# Altium schematic symbol library Mi Libreria.SchLib: 154 symbols
Pins are listed as number, name and electrical type; pins without a type are passive.

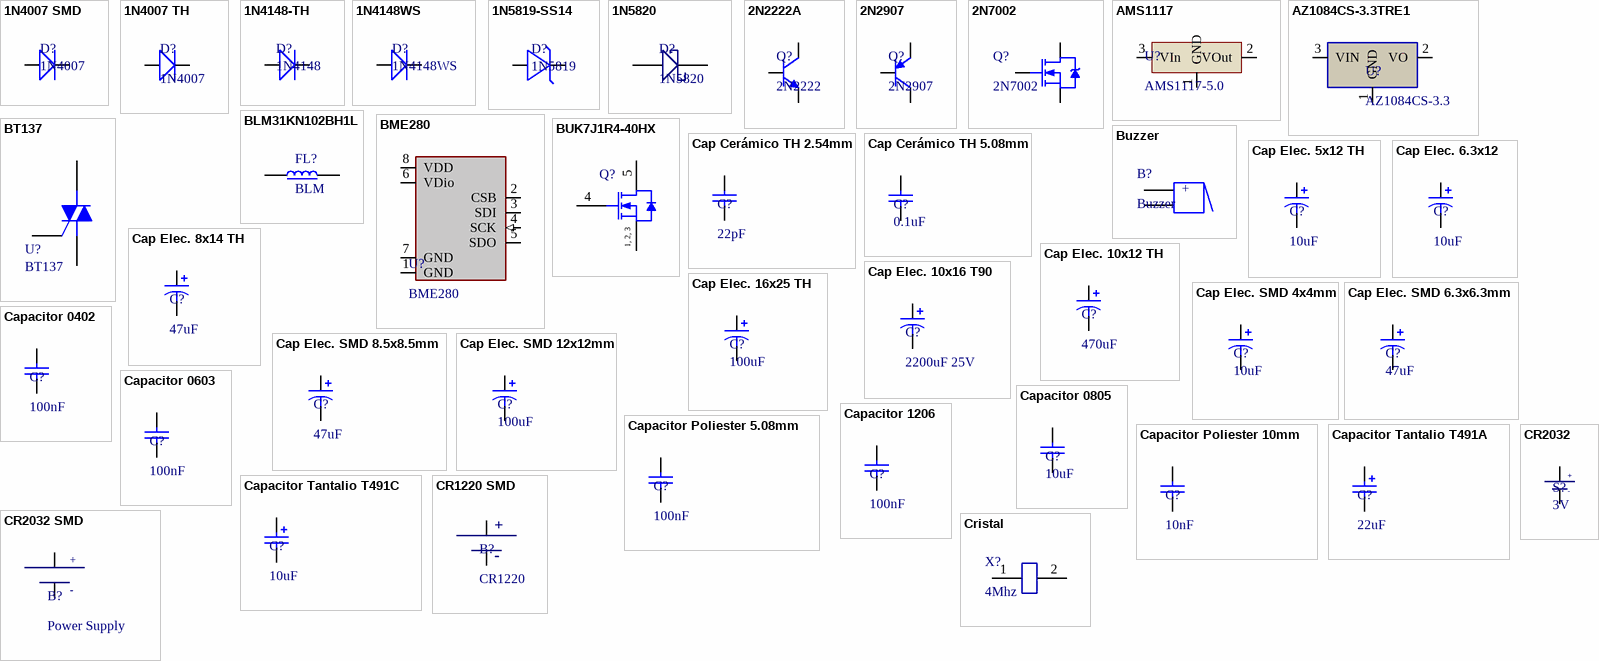
[diagram p0: symbols 1N4007 SMD to Cristal]

## 1N4007 SMD
designator D?, comment 1N4007
Diodo Rectificador
footprint DO214AC SMA (Diodo Proposito General)
pins: 1 A, 2 C

## 1N4007 TH
designator D?, comment 1N4007
Diodo Rectificador
footprint 1N4007 (Diode Rectifier TH)
pins: 1 A, 2 C

## 1N4148-TH
designator D?, comment 1N4148
Diodo Rectificador Recuperacion Rapida TH
footprint Diodo DO-35 (Diodo Rectificador,Zener cristal DO-35)
pins: 1 A, 2 C

## 1N4148WS
designator D?
Diodo Rectificador Recuperacion Rapida
footprint SOD-323 (SO3-323 SMD)
pins: 1 A, 2 C

## 1N5819-SS14
designator D?, comment 1N5819
Diodo Shotkky 2A
footprint 1N5819 (DO-214)
pins: 1 A, 2 C

## 1N5820
designator D?
Diodo Shotkky 5A
footprint 1N5820 (Diodo Shottky 3A Trough Hole)
pins: 1 A, 2 C

## 2N2222A
designator Q?, comment 2N2222
Transistor BJT NPN
footprint TO-92 Pi (Transistor To-92)
pins: 1 E, 2 B, 3 C

## 2N2907
designator Q?
Transistor BJT PNP
footprint TO-92 Pi (Transistor To-92)
pins: 1 E, 2 B, 3 C

## 2N7002
designator Q?
Mosfet N SOT23
footprint SOT23127P600-8N
pins: 1 G, 2 S, 3 D

## AMS1117
designator U?, comment AMS1117-5.0
Regulador Lineal de Voltaje
footprint SOT 223 (SOT223, 4-Leads, Body 6.50x7.10mm (avg), Pitch 2.30mm, IPC Medium Density)
pins: 1 GND, 2 VOut, 3 VIn

## AZ1084CS-3.3TRE1
designator U?, comment AZ1084CS-3.3
Reguladores de tensión LDO 5A LDO Reg 1.5V 5A 3.3V Lead Free
footprint TO-263-3 (DPAK POWER TO 263)
pins: 1 GND, 2 VO, 3 VIN

## BLM31KN102BH1L
designator FL?, comment BLM
1 Power Line Ferrite Bead 1206 (3216 Metric) 1.4A 75mOhm; MP: BLM31KN102BH1L; MF: Murata; Arrow_Electronics-Purchase-URL: https://snapeda.com/shop?store=Arrow+Electronics&id=4301733; Price: None; Package: 3216 Murata; Value: *; DigiKey-Purchase-URL: https://snapeda.com/shop?store=DigiKey&id=4301733; Availability: Good; Mouser-Purchase-URL: https://snapeda.com/shop?store=Mouser&id=4301733; SnapEDA_Link: https://www.snapeda.com/parts/BLM31KN102BH1L/Murata/view-part/4301733/?ref=snap
footprint BEADC3216X180N
pins: 1, 2

## BME280
designator U?
SENSOR PRESSURE HUMIDITY TEMP
footprint PSON65P250X250X100-8N
pins: 1 GND, 2 CSB, 3 SDI, 4 SCK (in), 5 SDO, 6 VDio (power), 7 GND, 8 VDD (power)

## BT137
designator U?
Triac
footprint TO-220AB (TO-220 AB MODELO PARA TRANSITORES)
pins: 1 M1, 2 M2, 3 G

## BUK7J1R4-40HX
designator Q?
N-Channel Standard Level MOSFET, 40 V, 120 A, 5-Pin SOT669, Tape and Reel; Manufacturer: NXP Semiconductors; PartNumber: BUK7Y3R5-40E,115; Automotive Qualified: Y; Channel Type: N; ID [max] (A): 100; IDM [max] (A): 622; Packing: Tape & Reel; Qr [typ] (nC): 25.4; VDS [max] (V): 40; VGSth [typ] (V): 3; PackageVersion: 13-02-27, 02/2013; PackageReference: SOT669; PackageDescription: 4-Pin Plastic Single-ended Surface Mounted Package, Body 4.9 x 3.95 mm, Pitch 1.27 mm; Supplier 1: Digi-Key; Supplier Part Number 1: 568-11418-2-ND; Supplier 2: Digi-Key; Supplier Part Number 2: 568-11418-1-ND; Supplier 3: Digi-Key; Supplier Part Number 3: 568-11418-6-ND; Supplier 4: Newark; Supplier Part Number 4: 45W7223; Supplier 5: Mouser; Supplier Part Number 5: 771-BUK7Y3R5-40E115; Mounting Technology: Surface Mount; Code_JEDEC: MO-235; ComponentLink1Description: Manufacturer URL; ComponentLink1URL: http://www.nxp.com/; ComponentLink2Description: Datasheet; ComponentLink2URL: http://www.nxp.com/documents/data_sheet/BUK7Y3R5-40E.pdf; ComponentLink3Description: Package Specification; ComponentLink3URL: http://www.nxp.com/documents/outline_drawing/sot669_po.pdf
footprint LFPAK56E (NXP LFPAK56E Plastic single-ended surface-mounted package)
pins: 1 S "source", 2 S "source", 3 S "source", 4 G "gate", 5 D "mounting base; connected to drain"
text: 1, 2, 3

## Buzzer
designator B?
Active Sound
footprint Buzzer (Buzzer 5V)
pins: 1, 2
text: +

## Cap Cerámico TH 2.54mm
designator C?, comment 22pF
Ceramic Capacitor 2.54mm
footprint Capacitor Ceramico 2.54mm (Capacitor Cerámico 4mm Trough Hole)
pins: 1, 2

## Cap Cerámico TH 5.08mm
designator C?, comment 0.1uF
Capacitor Ceramico TH 0.3
footprint Capacitor Ceramico 5.08,mm (Capacitor Cerámico TH 5.08mm)
pins: 1, 2

## Cap Elec. 5x12 TH
designator C?, comment 10uF
Capacitor Electrolítico 5x12mm
footprint Electrolitico 5x12 (Capacitor Electrolitico 5x12mm)
pins: 1, 2

## Cap Elec. 6.3x12
designator C?, comment 10uF
Capacitor Electrolítico 6.3x12mm
footprint Electrolitico 6.3x12 (Capacitor Electrolitico 6.3x12mm)
pins: 1, 2

## Cap Elec. 8x14 TH
designator C?, comment 47uF
Capacitor Electrolítico 8x14mm
footprint Electrolitico 8x14 (Capacitor Electrolitico 8x14)
pins: 1, 2

## Cap Elec. 10x12 TH
designator C?, comment 470uF
Capacitor Electrolitico TH 10x12mm
footprint Electrolitico 10x12 (Capacitor Electrolitico 10x12mm)
pins: 1, 2

## Cap Elec. 10x16 T90
designator C?, comment 2200uF 25V
Capacitor Electrolitico TH 10x16mm en ángulo
footprint Electrolitico 10x16 Angulo (Capacitor Electrolitico 10x16mm en 90 grados)
pins: 1, 2

## Cap Elec. 16x25 TH
designator C?, comment 100uF
Capacitor Electrolítico TH 15x25mm
footprint Capacitor Electrolitico (Capacitor Electrolitico 16x25)
pins: 1, 2

## Cap Elec. SMD 4x4mm
designator C?, comment 10uF
4X4 Electrolitico Capacitor SMD
footprint Cap Electrolitico SMD 4x4 (SMD Capacitor 4x4mm)
pins: 1, 2

## Cap Elec. SMD 6.3x6.3mm
designator C?, comment 47uF
6.6X6.6 Electrolitico Capacitor SMD
footprint Cap Electrolitico SMD 6.6X6.6MM (SMD Capacitor 6.6X6.6mm)
pins: 1, 2

## Cap Elec. SMD 8.5x8.5mm
designator C?, comment 47uF
Capacitor Electrolitico SMD 5x5
footprint Capacitor SMD 8.5x8.5 (Capacitor Electrolitico SMD 8.5x8.5mm)
pins: 1, 2

## Cap Elec. SMD 12x12mm
designator C?, comment 100uF
12X12 Electrolitico Capacitor SMD
footprint CAPACITOR SMD (ELECTROLITICO)
pins: 1, 2

## Capacitor 0402
designator C?, comment 100nF
Capacitor Ceramico SMD 0402
footprint Capacitor 0402
pins: 1, 2

## Capacitor 0603
designator C?, comment 100nF
Capacitor Ceramico SMD 0603
footprint Capacitor 0603 (Chip Capacitor 0603 SMD)
pins: 1, 2

## Capacitor 0805
designator C?, comment 10uF
Capacitor Cerámico SMD 0805
footprint CAPACITOR 0805 (SMD CAPACITOR)
pins: 1, 2

## Capacitor 1206
designator C?, comment 100nF
Capacitor cerámico 1206 SMD
footprint Capacitor 1206 (Capacitor Ceramico 1206)
pins: 1, 2

## Capacitor Poliester 5.08mm
designator C?, comment 100nF
Capacitor Polyester 5mm Pitch; B32529C3103K000: 10nF 250VCA
footprint Capacitor Poliester (Capacitor Poliester 5.08mm Pitch)
pins: 1, 2

## Capacitor Poliester 10mm
designator C?, comment 10nF
Capacitor Poliester 600VAC
footprint Polyester Cap 600 (Cpacitor Poliester 600VAC)
pins: 1, 2

## Capacitor Tantalio T491A
designator C?, comment 22uF
Capacitor Tantalio SMD T491A
footprint Tantalio T494A (Capacitor SMD)
pins: 1, 2

## Capacitor Tantalio T491C
designator C?, comment 10uF
Capacitor Tantalio SMD C
footprint Tantalio T494C
pins: 1, 2

## CR1220 SMD
designator B?, comment CR1220
3V Battery
footprint CR1220 (Battery Holder SMT)
pins: 1 (power), 2 (power)
text: +; -

## CR2032
designator S?, comment 3V
Bateria 3V CR2032
footprint CR2032 (Battery Holder TH)
pins: 1 (power), 2
text: +; -

## CR2032 SMD
designator B?, comment Power Supply
Battery Power
footprint CR2032 - SMD (Holder CR2032 SMD)
pins: 1 (power), 2 (power)
text: +; -

## Cristal
designator X?, comment 4Mhz
HC-49S
footprint CRISTAL (CRISTAL TH)
pins: 1, 2

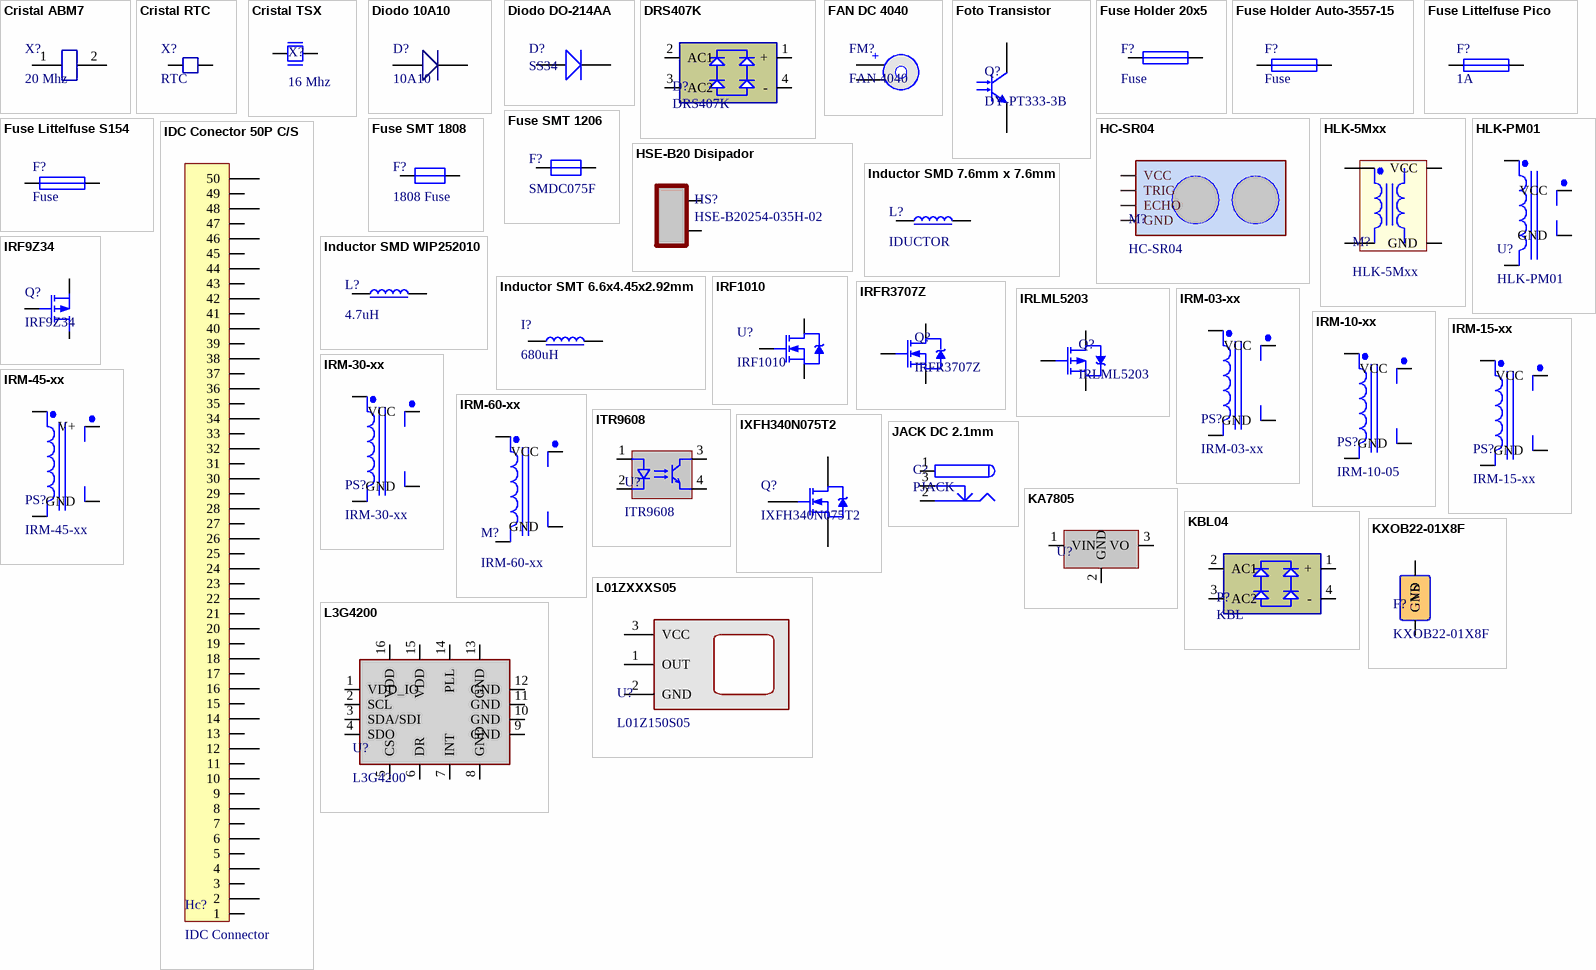
[diagram p1: symbols Cristal ABM7 to L3G4200]

## Cristal ABM7
designator X?, comment 20 Mhz
Cristal SMD ABM 7 6.2x3.5mm
footprint ABM7 Cristal
pins: 1, 2

## Cristal RTC
designator X?, comment RTC
Cristal 32.768
footprint Cristal RTC (32.768 Khz Th)
pins: 1, 2

## Cristal TSX
designator X?, comment 16 Mhz
Cristal SMD 3.2 x 2.5mm
footprint Cristal SMD TSX (TSX3225)
pins: 1, 3

## Diodo 10A10
designator D?, comment 10A10
Diodo Rectificador 10A
footprint 10A10 (DIODE)
pins: 1 A, 2 C

## Diodo DO-214AA
designator D?, comment SS34
Diodo SMD 3A DO-214AA SMB
footprint DO214AA SMB (Diodo Proposito General SMD 3A)
pins: 1 A, 2 C

## DRS407K
designator D?
Bridge Rectifier DRS407K  4A
footprint Rctificador DRS407K (DRS407K  Bridge Rectifier 4A)
pins: 1 +, 2 AC1, 3 AC2, 4 -

## FAN DC 4040
designator FM?, comment FAN 4040  (mechanical)
Active Move
footprint FAN DC 4040 (DC Fan 404010)
pins: 1, 2
text: +

## Foto Transistor
designator Q?, comment DY-PT333-3B
Foto Transistor TH 5mm
footprint Photo Transistor (5mm TH)
pins: 1 C, 2 E

## Fuse Holder 20x5
designator F?, comment Fuse
Fuse Holder 20x5
footprint Fuse Holder (Holder 20x5)
pins: 1, 2

## Fuse Holder Auto-3557-15
designator F?, comment Fuse
Fuse Holder Automotive
footprint Fuse Holder Auto mini (0891020.NXS Compa)
pins: 1, 2

## Fuse Littelfuse Pico
designator F?, comment 1A
Fuse Axial Pico; ComponentLink1Description: Mouser; ComponentLink1URL: https://www.mouser.mx/ProductDetail/Littelfuse/0251002NRT1L?qs=sGAEpiMZZMsZt0HrY5I79mtSTBuxwW7a%2FKhttimaDZk%3D
footprint Fuse Pico (Fuse Pico II)
pins: 1, 2

## Fuse Littelfuse S154
designator F?, comment Fuse
Fuse Holder Automotive
footprint Littelfuse SMD 154
pins: 1, 2

## Fuse SMT 1206
designator F?, comment SMDC075F
Fusible SMD 1206 SMDC075F
footprint Fusible SMT 1206 SMDC075F (SMDC075F Surface mount Fuse 1206 Resseteable)
pins: 1, 2

## Fuse SMT 1808
designator F?, comment 1808 Fuse
Fusible SMD 1808 Alto Voltaje
footprint Fusible 1808 SMT (SMT 1808 Fuse)
pins: 1, 2

## HC-SR04
designator M?
Ultrasonic Distance Sensor
footprint HC-SR04 (Ultrasonic Sensor Module)
pins: ECHO, GND, TRIG, VCC

## HLK-5Mxx
designator M?
Power Supply AC-DC 5W Hilink
footprint HLK-PM01 (HLK-PM01 AC-DC Converter)
pins: 1 AC1, 2 AC2, 3 VCC, 4 GND

## HLK-PM01
designator U?
Power Supply AC-DC
footprint HLK-PM01 (HLK-PM01 AC-DC Converter)
pins: 1 AC1, 2 AC2, 3 VCC, 4 GND

## HSE-B20 Disipador
designator HS?, comment HSE-B20254-035H-02
Heat Sink TO-220 5.5W
footprint HSE-B20254 (Heat Sink 5.5W TO 220)
pins: 1 A, 2 C

## IDC Conector 50P C/S
designator Hc?, comment IDC Connector
IDC Connector 25x2 OR962-ND
footprint IDC 50P (Conector IDC 50P con seguro)
pins: 1, 2, 3, 4, 5, 6, 7, 8, 9, 10, 11, 12, 13, 14, 15, 16, 17, 18, 19, 20, 21, 22, 23, 24, 25, 26, 27, 28, 29, 30, 31, 32, 33, 34, 35, 36, 37, 38, 39, 40, 41, 42, 43, 44, 45, 46, 47, 48, 49, 50

## Inductor SMD 7.6mm x 7.6mm
designator L?, comment IDUCTOR
SMT Inductor Power
footprint INDP8273X35N (Precision Wire Wound Inductor, 2-Leads, Body 8.15x7.30mm, IPC Medium Density)
pins: 1 A, 2 B

## Inductor SMD WIP252010
designator L?, comment 4.7uH
SMT Inductor Power 2.5X2X10 1.22A
footprint INDUCTOR 252010 (Inductor SMD 2.5x2x1mm)
pins: 1 A, 2 B

## Inductor SMT 6.6x4.45x2.92mm
designator I?, comment 680uH
SMT Inductor Power
footprint Inductor SMD (SMT Inductor 6.6x4.45x2.92mm)
pins: 1 A, 2 B

## IRF9Z34
designator Q?
Mosfet Canal P
footprint TO-220AB (TO-220 AB MODELO PARA TRANSITORES)
pins: 1 G, 2 D, 3 S

## IRF1010
designator U?
Mostet Canal N
footprint IRF1010 (Mosfet N TO-220)
pins: 1 G, 2 D, 3 S

## IRFR3707Z
designator Q?
N-MOSFET DPAK
footprint DPAK-P (dPAK)
pins: 1 G, 2 D, 3 S

## IRLML5203
designator Q?
P Mosfet -30V -3A
footprint SOT23127P600-8N
pins: 1 G, 2 S, 3 D

## IRM-03-xx
designator PS?
AC-DC Converter 3W xVCC
footprint IRM-03 (AC-DC Converter)
pins: 1 AC1, 2 AC2, 3 VCC, 4 GND

## IRM-10-xx
designator PS?, comment IRM-10-05
AC-DC Converter 10W xVCD xA
footprint IRM-10 (Power Supply AC-DC 10W)
pins: 1 AC1, 2 AC2, 3 VCC, 4 GND

## IRM-15-xx
designator PS?
AC-DC Converter 15W xVCD xA
footprint IRM-15 (Power Supply AC-DC 15W)
pins: 1 AC1, 2 AC2, 3 VCC, 4 GND

## IRM-30-xx
designator PS?
AC-DC Converter 30W xxVCD xA
footprint IRM-30 (Power Supply AC-DC 30W)
pins: 1 AC1, 2 AC2, 3 VCC, 4 GND

## IRM-45-xx
designator PS?
AC-DC Converter 45W xxVCD xA
footprint IRM-45 (Power Supply AC-DC 45W)
pins: AC/L ACL, AC/N ACN, GND, V+

## IRM-60-xx
designator M?
AC-DC Converter 60W xV
footprint IRM-60-12 (AC-DC Converter)
pins: 1 AC1, 2 AC2, 3 VCC, 4 GND

## ITR9608
designator U?
Sensor IR reflectivo en modo ranura
footprint ITR9608 (Photo Interrupter)
pins: 1 A, 2 K, 3 C, 4 E

## IXFH340N075T2
designator Q?
Mosfet N 75V 340A TO247
footprint TO-247 (TO-247 Tipo Transistor Potencia)
footprint TO-247 + Disipador (TO-247 Tipo Transistor Potencia)
pins: 1 G, 2 D, 3 S

## JACK DC 2.1mm
designator C?, comment PJACK
Power Jack DC
footprint JACK DC (2.5mm TH)
pins: 1 (power), 2 (power), 3 (power)

## KA7805
designator U?, comment M7805  (value not drawn)
Regulador de Voltaje 5V 1A
footprint DPAK-P (DPAK)
pins: 1 VIN, 2 GND, 3 VO

## KBL04
designator P?, comment KBL
Bridge Rectifier KBL0X 4A/10A
footprint KBL-04 (KBL PUENTE DE DIODOS)
pins: 1 +, 2 AC1, 3 AC2, 4 -

## KXOB22-01X8F
designator F?
Solar Cell 22x7mm
footprint KXOB22-01X8F (Solar Cell 22x7mm)
pins: 1 GND, 2 VS

## L01ZXXXS05
designator U?, comment L01Z150S05
Current Sensor 150
footprint L01Z150S05 (Current Sensor)
pins: 1 OUT, 2 GND, 3 VCC

## L3G4200
designator U?
MEMS GYROSCOPE
footprint QFN 16P (QFN ADXL326)
pins: 1 VDD_IO, 2 SCL, 3 SDA/SDI, 4 SDO (oc), 5 CS, 6 DR, 7 INT, 8 GND, 9 GND (oc), 10 GND (oc), 11 GND (oc), 12 GND (oc), 13 GND, 14 PLL, 15 VDD, 16 VDD

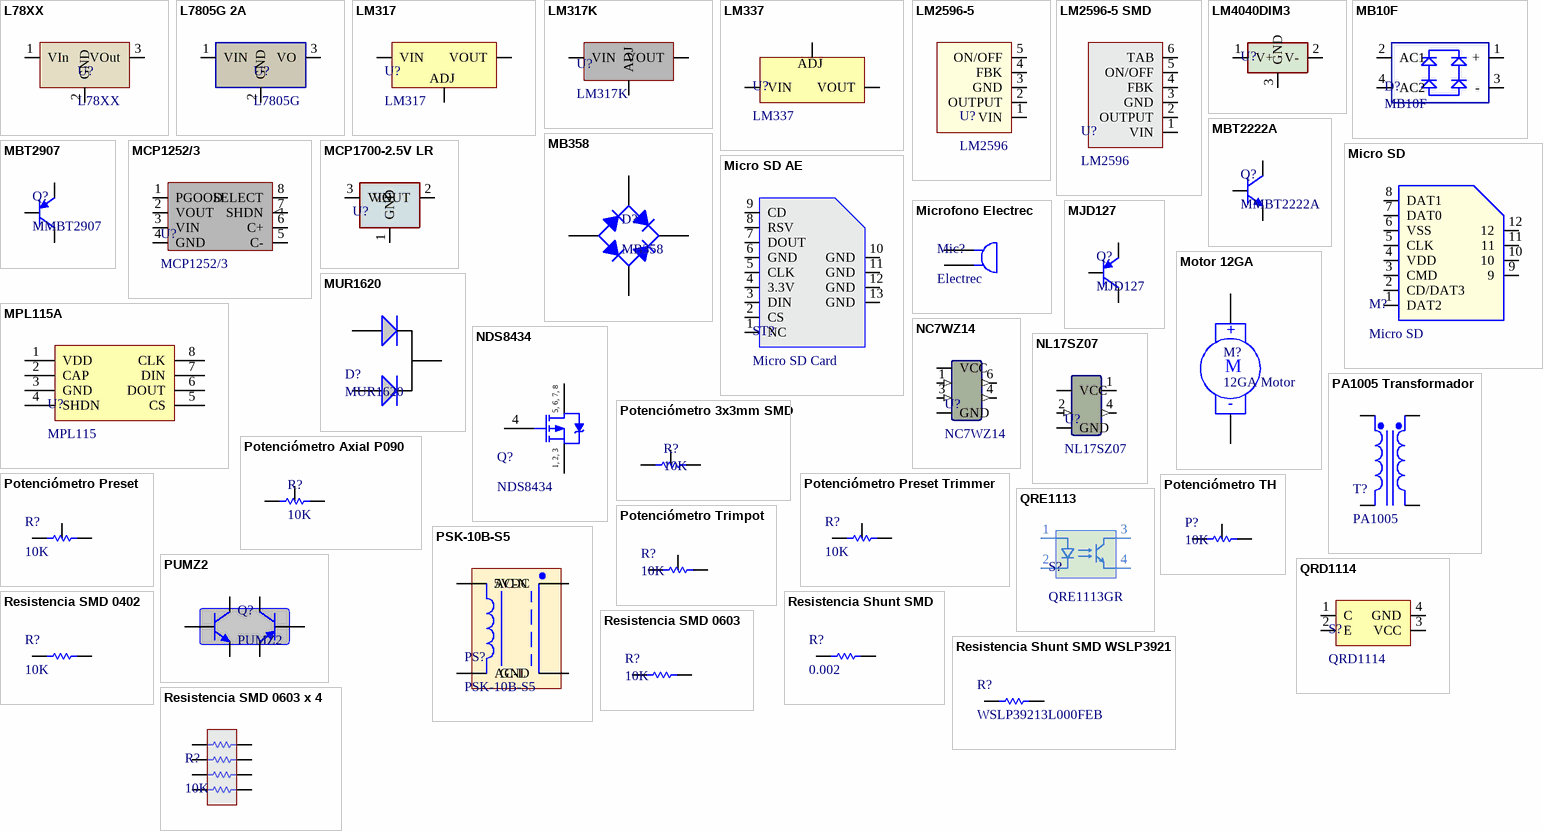
[diagram p2: symbols L78XX to Resistencia SMD 0603 x 4]

## L78XX
designator U?
Regulador de Voltaje Lineal
footprint TO-220 (TO-220 Angulo)
footprint TO-220AB (TO-220 AB MODELO PARA TRANSITORES)
pins: 1 VIn, 2 GND, 3 VOut

## L7805G 2A
designator U?, comment L7805G
Linear Regulator SMD 2A
footprint D2PAK (D2PAK POWER)
pins: 1 VIN, 2 GND, 3 VO

## LM317
designator U?
Linear Regulador 1.2V-24V
footprint TO-220AB (TO-220 AB MODELO PARA TRANSITORES)
pins: 1 ADJ, 2 VOUT, 3 VIN

## LM317K
designator U?
Linear Regulador 1.2V-24V 5A
footprint TO-3 (TO-3 Transistor)
pins: 1 ADJ, 2 VIN, 3 VOUT

## LM337
designator U?
Linear Negative Regulator
footprint TO-220AB (TO-220 AB MODELO PARA TRANSITORES)
pins: 1 ADJ, 2 VIN, 3 VOUT

## LM2596-5
designator U?, comment LM2596
Switching Regulator TO-220
footprint TO220-5 (Transistor TO-220-5 c/Disipador)
pins: 1 VIN, 2 OUTPUT, 3 GND, 4 FBK, 5 ON/OFF

## LM2596-5 SMD
designator U?, comment LM2596
Switching Regulator
footprint LM2596 SMD (Regulador Switcheo SMD DPAK)
pins: 1 VIN, 2 OUTPUT, 3 GND, 4 FBK, 5 ON/OFF, 6 TAB

## LM4040DIM3
designator U?, comment VR 2.5  (value not drawn)
Voltaje de Referencia
footprint SOT23127P600-8N
pins: 1 V+, 2 V-, 3 GND

## MB10F
designator D?
Bridge Rectifier MB10F 1A
footprint MBF-4 (MBF-4 SMT Bridge Rectifier Low Power)
pins: 1 +, 2 AC1, 3 -, 4 AC2

## MB358
designator D?
Puente Rectificador 35A
footprint KBPC
pins: 1 P, 2 AC, 3 N, 4 AC

## MBT2222A
designator Q?, comment MMBT2222A
BJT SOT23 NPN TRANSISTOR
footprint SOT23127P600-8N
pins: 1 B, 2 E, 3 C

## MBT2907
designator Q?, comment MMBT2907
BJT SOT23 PNP TRANSISTOR
footprint SOT23127P600-8N
pins: 1 B, 2 E, 3 C

## MCP1252/3
designator U?
DC-DC Regulator
footprint MSOP 8
pins: 1 PGOOD, 2 VOUT, 3 VIN, 4 GND, 5 C-, 6 C+, 7 SHDN, 8 SELECT

## MCP1700-2.5V LR
designator U?, comment MCP1700  (value not drawn)
Regulador 2.5V 250mA
footprint SOT23127P600-8N
pins: 1 GND, 2 VOUT, 3 VIN

## Micro SD
designator M?
Micro SD Card Connector
footprint Micro SD (Conector Micro SD)
pins: 1 DAT2, 2 CD/DAT3, 3 CMD, 4 VDD, 5 CLK, 6 VSS, 7 DAT0, 8 DAT1, 9, 10, 11, 12

## Micro SD AE
designator ST?, comment Micro SD Card
Conector Micro SD A-Electronics
footprint Micro SD AE (Micro SD Conector AR)
pins: 1 NC, 2 CS, 3 DIN, 4 3.3V, 5 CLK, 6 GND, 7 DOUT, 8 RSV, 9 CD, 10 GND, 11 GND, 12 GND, 13 GND

## Microfono Electrec
designator Mic?, comment Electrec
Microphone Electrec
footprint Microfono Electrec (Microphone Electrec)
pins: 1, 2

## MJD127
designator Q?
Transistor Darlington BJT  PNP complementary 100V 8A
footprint DPAK-P (DPAK)
pins: 1 B, 2 C, 3 E

## Motor 12GA
designator M?, comment 12GA Motor
Geared Motor DC
footprint Micro Motor (Pololu 12Ga Motor)
pins: 1 +, 2 -
text: M

## MPL115A
designator U?, comment MPL115
Sensor de Presión
footprint MPL115A (TQFP, 8-Leads, Body 2.68x4.68mm, Pitch 1.25mm, IPC Medium Density)
pins: 1 VDD, 2 CAP, 3 GND, 4 SHDN, 5 CS, 6 DOUT, 7 DIN, 8 CLK

## MUR1620
designator D?
Diodo Rectificador Doble de Recuperacion Rapida
footprint TO-220AB (TO-220 AB MODELO PARA TRANSITORES)
pins: 1 A, 2 C, 3 A

## NC7WZ14
designator U?
Not SMD 2 Channels
footprint SOT-363 (SOT-363 6PIN SC70-6)
pins: 1 A1 (in), 2 GND, 3 A2 (in), 4 Y2 (out), 5 VCC, 6 Y1 (out)

## NDS8434
designator Q?
Mosfet P SOIC 8
footprint SOIC 8PIN (SOIC, 8-Leads, Body 5.00x4.00mm, Pitch 1.27mm, IPC Medium Density)
pins: 1 S, 2 S, 3 S, 4 G, 5 D, 6 D, 7 D, 8 D
text: 5, 6, 7, 8; 1, 2, 3

## NL17SZ07
designator U?
Single Buffer 1CH
footprint SC70 - 5P (5 Pin SMD SC70)
pins: 1 NC (oe), 2 A (in), 3 GND, 4 Y (out), 5 VCC

## PA1005 Transformador
designator T?, comment PA1005
Current Transformer
footprint Trafo SMD (PA1005)
pins: 1 Sec+, 3 Sec-, 7 Pri-, 8 Pri+

## Potenciómetro 3x3mm SMD
designator R?, comment 10K
SMD 3mmx3mm Preset
footprint SMD POT 3X3 (POTENCIOMETRO SMD 3X3mm)
pins: 1 A, 2 B, 3

## Potenciómetro Axial P090
designator R?, comment 10K
Potenciometro Vertical
footprint P090 Pot (Potenciometro Axial CUT)
pins: 1 A, 2, 3

## Potenciómetro Preset
designator R?, comment 10K
Preset TH
footprint Preset (Potenciometro Tipo Preset)
pins: 1 A, 2, 3

## Potenciómetro Preset Trimmer
designator R?, comment 10K
Preset TH
footprint Preset Trimmer (Potenciometro Tipo Trimmer)
pins: 1 A, 2, 3

## Potenciómetro TH
designator P?, comment 10K
Axial Pot
footprint POT_N TH (POTENCIOMETRO ESTANDAR TROUGH HOLE)
pins: 1 A, 2, 3

## Potenciómetro Trimpot
designator R?, comment 10K
Resistencia Variable de Presisción
footprint TRIMPOT (TRIMPOT G TROUGH HOLE)
pins: 1 A, 2 3, 3 B

## PSK-10B-S5
designator PS?
AC-DC Converter 10W 5V
footprint PSK-10B-S5 (Power Supply AC-DC 10W)
pins: 1 AC-L, 2 AC-N, 3 5VDC, 4 GND

## PUMZ2
designator Q?
Transistor Array NPN-PNP SOT 363
footprint SOT-363 (SOT-363 6PIN SC70-6)
pins: 1 E, 2 B, 3 B, 4 C, 5 E, 6 C

## QRD1114
designator S?
Sensor Óptico Reflectivo
footprint QRD1114 (QRD REFLECTIVE SENSOR)
pins: 1 C, 2 E, 3 VCC, 4 GND

## QRE1113
designator S?, comment QRE1113GR
Sensor Óptico Reflectivo
footprint QRE1113 (Reflective Sensor)
pins: 1 A, 2 C, 3 CL, 4 E

## Resistencia Shunt SMD
designator R?, comment 0.002
Reistencia Shunt 10W 2818
footprint WSLP2818 (10W Resistor Shunt SMD)
pins: 1 A, 2 B

## Resistencia Shunt SMD WSLP3921
designator R?, comment WSLP39213L000FEB
Shunt Resistor SMT
footprint Resistencia WSLP3921 (SMW510RJT WSLP39213L000FEB)
pins: 1 A, 2 B

## Resistencia SMD 0402
designator R?, comment 10K
Resistencia SMD 0402
footprint Resistencia 0402
pins: 1 A, 2 B

## Resistencia SMD 0603
designator R?, comment 10K
Resistencia SMD 0603
footprint RESISTENCIA 0603 (Chip Resistor, 2-Leads, Body 1.63x0.85mm, IPC Medium Density)
pins: 1 A, 2 B

## Resistencia SMD 0603 x 4
designator R?, comment 10K
Red de Resistencias 4x0603 SMD
footprint Resistencia SMD 0603x4 (Resistor Network 0603x4)
pins: 1 A, 2 B, 3 A, 4 B, 5 A, 6 B, 7 A, 8 B

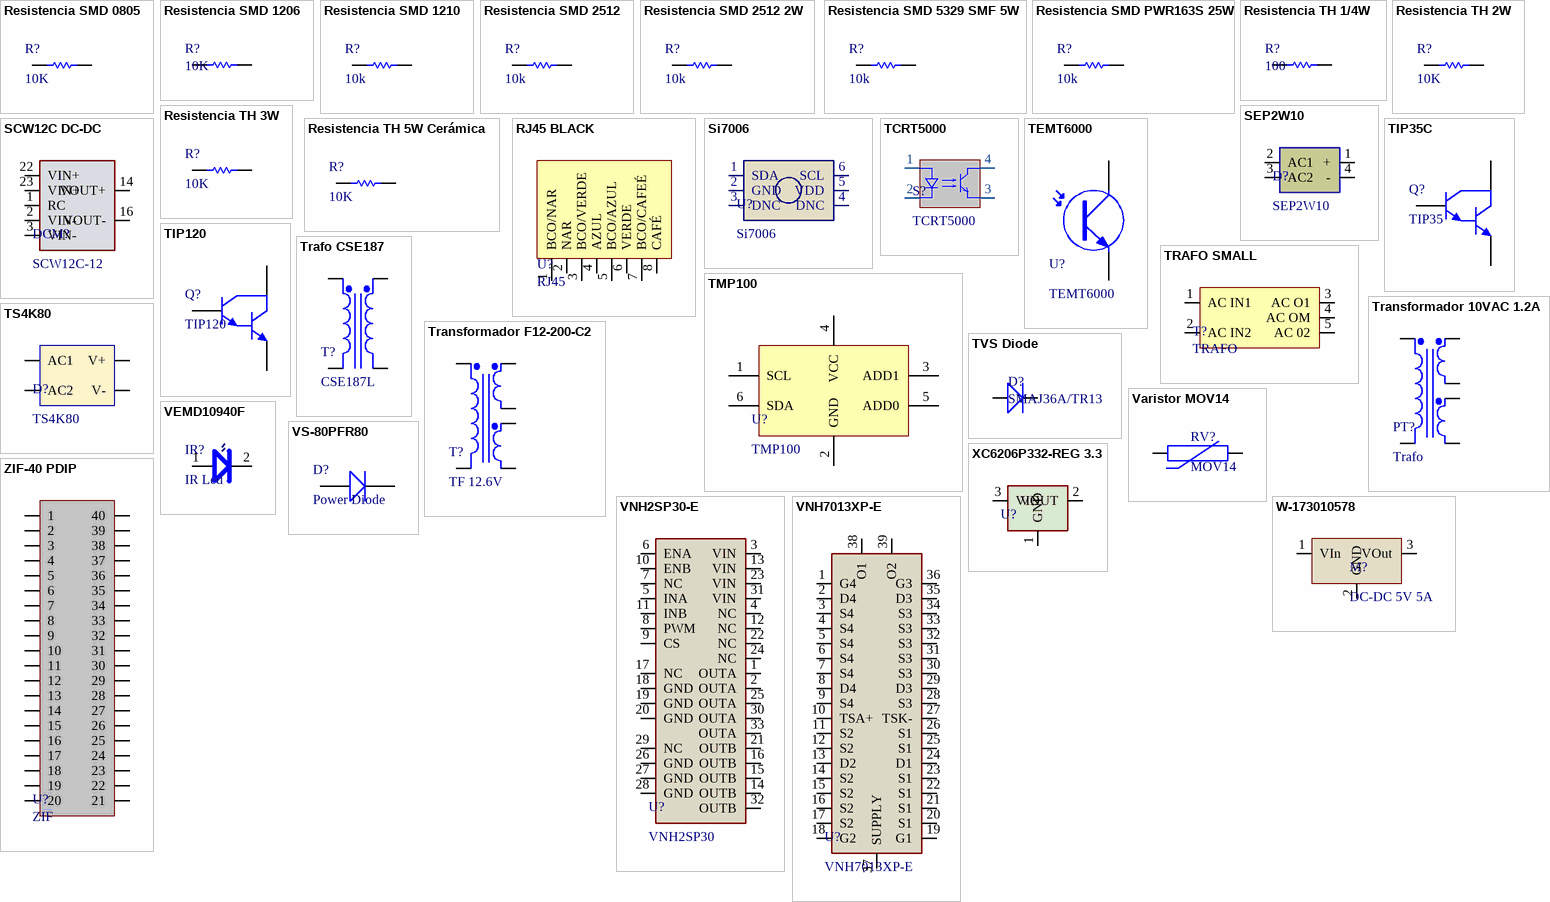
[diagram p3: symbols Resistencia SMD 0805 to ZIF-40 PDIP]

## Resistencia SMD 0805
designator R?, comment 10K
Resistencia SMD 0805
footprint Resistencia 0805 (RESISTENCIA SMD 0805)
pins: 1 A, 2 B

## Resistencia SMD 1206
designator R?, comment 10K
Resistencia SMD 1206
footprint Resistencia 1206 (Resistencia 1206 SMD)
pins: 1 A, 2 B

## Resistencia SMD 1210
designator R?, comment 10k
Resistencia SMD 1210
footprint Resistencia 1210
pins: 1 A, 2 B

## Resistencia SMD 2512
designator R?, comment 10k
Reistencia SMD 2512
footprint RESISTENCIA 2512
pins: 1 A, 2 B

## Resistencia SMD 2512 2W
designator R?, comment 10k
Reistencia SMD 2512W 2W
footprint Resistencia 2512W (Resistencia SMD 2512W 2W)
pins: 1 A, 2 B

## Resistencia SMD 5329 SMF 5W
designator R?, comment 10k
Reistencia SMD 5329 SMF 5W
footprint Resistencia SM5W (SMW510RJT 5W 5329)
pins: 1 A, 2 B

## Resistencia SMD PWR163S 25W
designator R?, comment 10k
Reistencia SMD PWR163S 25W
footprint Resistencia PWR163S (Resistencia PWR163S 25W SMD)
pins: 1 A, 2 B

## Resistencia TH 1/4W
designator R?, comment 100
Resistencia TH 1/4W
footprint Resistencia (Trough Hole 1/4W)
pins: 1 A, 2 B

## Resistencia TH 2W
designator R?, comment 10K
Resistencia TH 2W
footprint Resistencia Potencia (R 2W 0.6 In.)
pins: 1 A, 2 B

## Resistencia TH 3W
designator R?, comment 10K
Resistencia TH 3W Metal
footprint Resistor Power (R 3W 0.6 In.)
pins: 1 A, 2 B

## Resistencia TH 5W Cerámica
designator R?, comment 10K
Resistencia TH 5W PCB Horizontal
footprint Resistencia Cerámica 5W (Cement Resistor TH PCB Horizontal 5W)
pins: 1 A, 2 B

## RJ45 BLACK
designator U?, comment RJ45
Conector RJ45
footprint RJ45 (Conector)
pins: 1 BCO/NAR, 2 NAR, 3 BCO/VERDE, 4 AZUL, 5 BCO/AZUL, 6 VERDE, 7 BCO/CAFEÉ, 8 CAFÉ

## SCW12C DC-DC
designator DCM?, comment SCW12C-12
DC-DC Converter 12W 12VCC
footprint SCW12 (DC-DC CONVERTER)
pins: 1 RC, 2 VIN-, 3 VIN-, 14 VOUT+, 16 VOUT-, 22 VIN+, 23 VIN+

## SEP2W10
designator D?
Bridge Rectifier 2A
footprint SEP2W10 (Bridge Rectifier)
pins: 1 +, 2 AC1, 3 AC2, 4 -

## Si7006
designator U?
Sensor I2C Temperatura Humedad
footprint Si7006 (Sensor I2C Humedad Temp)
pins: 1 SDA, 2 GND, 3 DNC, 4 DNC, 5 VDD, 6 SCL

## TCRT5000
designator S?
Sensor IR reflectivo
footprint TCRT5000
pins: 1 A, 2 K, 3 E, 4 C

## TEMT6000
designator U?
Light Sensor TEMT6000
footprint TEMT600 (Sensor Light SMD)
pins: 1 C, 3 E

## TIP35C
designator Q?, comment TIP35
Darlington NPN Transistor TO-247
footprint TO-247 (TO-247 Tipo Transistor Potencia)
pins: 1 B, 2 C, 3 E

## TIP120
designator Q?
Darlngton NPN Transistor
footprint TO-220AB (TO-220 AB MODELO PARA TRANSITORES)
pins: 1 B, 2 C, 3 E

## TMP100
designator U?
Sensor de Temperatura I2C
footprint TMP100 (SOT23, 6-Leads, Body 2.90x2.85mm, Pitch 0.95mm, IPC Medium Density)
pins: 1 SCL, 2 GND, 3 ADD1, 4 VCC, 5 ADD0, 6 SDA

## Trafo CSE187
designator T?, comment CSE187L
Power Transformer
footprint Trafo CSE187L
pins: 1 Pri+, 2 Pri-, 3 Sec-, 4 Sec+

## TRAFO SMALL
designator T?, comment TRAFO
Power Transformer
footprint TRAFO SMALL (TRANSFORMADOR PEQUEÑO)
pins: 1 AC IN1, 2 AC IN2, 3 AC O1, 4 AC OM, 5 AC 02

## Transformador 10VAC 1.2A
designator PT?, comment Trafo
F10-1200-C2
footprint F10-1200-C2 PWR (Transformador 10VCt 1.2A)
pins: 1 Pri+, 2 Pri-, 3 Sec1+, 4 Sec1-, 5 Sec2+, 6 Sec2-

## Transformador F12-200-C2
designator T?, comment TF 12.6V
Transformador 12.6V .2A
footprint F12-200-C2 (Transformador 12V)
pins: 1 Pri+, 2 Pri-, 3 Sec1+, 4 Sec1-, 5 Sec2+, 6 Sec2-

## TS4K80
designator D?
Rectifier Bridge Diode Single 800V 4A 4-Pin TS4K Tube
footprint TS4K (TS4K 800V Standard Bridge Rectifier)
pins: 1 V+, 2 AC1, 3 AC2, 4 V-

## TVS Diode
designator D?, comment SMAJ36A/TR13
Supresores de descargas electrostáticas (ESD) / Diodos TVS SMAJ DO-214AC 36V 58.1V
footprint DO214AC SMA (Diodo Proposito General)
pins: 1 A, 2 C

## Varistor MOV14
designator RV?, comment MOV14
Varistor, Mov, 1.025kv, Disc 14mm; MF: EPCOS; MP: B72220Q0381K101; Package: Disc-20 EPCOS - TDK Electronics; Price: None; Check_prices: https://www.snapeda.com/parts/B72220Q0381K101/EPCOS/view-part/?ref=eda; Value: *; SnapEDA_Link: https://www.snapeda.com/parts/B72220Q0381K101/EPCOS/view-part/?ref=snap; Availability: In Stock; Purchase-URL: https://pricing.snapeda.com/search?q=B72220Q0381K101&ref=eda
footprint VAR_MOV14
pins: 1, 2

## VEMD10940F
designator IR?, comment IR Led
Photodiode IR SMD
footprint VEMD10940F (IR Led SMD)
pins: 1 A, 2 C

## VNH2SP30-E
designator U?, comment VNH2SP30
H BRIDGE MOSFET
footprint VNH2SP30a
pins: 1 OUTA, 2 OUTA, 3 VIN, 4 NC, 5 INA, 6 ENA, 7 NC, 8 PWM, 9 CS, 10 ENB, 11 INB, 12 NC, 13 VIN, 14 OUTB, 15 OUTB, 16 OUTB, 17 NC, 18 GND, 19 GND, 20 GND, 21 OUTB, 22 NC, 23 VIN, 24 NC, 25 OUTA, 26 GND, 27 GND, 28 GND, 29 NC, 30 OUTA, 31 VIN, 32 OUTB, 33 OUTA

## VNH7013XP-E
designator U?
H BRIDGE MOSFET
footprint VNH7013
pins: 1 G4, 2 D4, 3 S4, 4 S4, 5 S4, 6 S4, 7 S4, 8 D4, 9 S4, 10 TSA+, 11 S2, 12 S2, 13 D2, 14 S2, 15 S2, 16 S2, 17 S2, 18 G2, 19 G1, 20 S1, 21 S1, 22 S1, 23 S1, 24 D1, 25 S1, 26 S1, 27 TSK-, 28 S3, 29 D3, 30 S3, 31 S3, 32 S3, 33 S3, 34 S3, 35 D3, 36 G3, 37 SUPPLY, 38 O1, 39 O2

## VS-80PFR80
designator D?, comment Power Diode
Diodo Rectificador VS-80PFR80
footprint VS-80PFR80 (Power Diode VS-80PFR80)
pins: 1 A, 2 C

## W-173010578
designator M?, comment DC-DC 5V 5A
DC DC CONVERTER 5V 5W
footprint W-173010578 (Convertidor DC-DC)
pins: 1 VIn, 2 GND, 3 VOut

## XC6206P332-REG 3.3
designator U?, comment 3.3V  (value not drawn)
Regulador 3.3V 500mA
footprint SOT23127P600-8N
pins: 1 GND, 2 VOUT, 3 VIN

## ZIF-40 PDIP
designator U?, comment ZIF
ZIF Socket 40P
footprint FIF 40 (BASE ZIF 40 P)
pins: 1, 2, 3, 4, 5, 6, 7, 8, 9, 10, 11, 12, 13, 14, 15, 16, 17, 18, 19, 20, 21, 22, 23, 24, 25, 26, 27, 28, 29, 30, 31, 32, 33, 34, 35, 36, 37, 38, 39, 40